# EAGLE library part 096_INCH_MONOCHROME_DISP (library jonsowman)
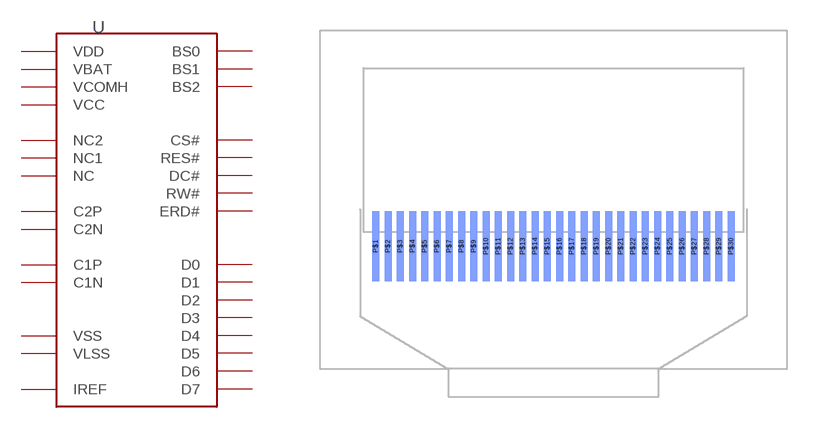
[diagram p15: symbol with the pads of 096_INCH_MONOCHROME_DISP; footprint 096_INCH_MONOCHROME_DISP]

Designator prefix -

## 096_INCH_MONOCHROME_DISP  [096_INCH_MONOCHROME_DISP]
P$1  NC  nc
P$2  C2P
P$3  C2N
P$4  C1P
P$5  C1N
P$6  VBAT
P$7  NC1  nc
P$8  VSS
P$9  VDD
P$10  BS0
P$11  BS1
P$12  BS2
P$13  CS#
P$14  RES#
P$15  DC#
P$16  RW#
P$17  ERD#
P$18  D0
P$19  D1
P$20  D2
P$21  D3
P$22  D4
P$23  D5
P$24  D6
P$25  D7
P$26  IREF
P$27  VCOMH
P$28  VCC
P$29  VLSS
P$30  NC2  nc

## Footprint 096_INCH_MONOCHROME_DISP (pad centres in mm)
smd 0.4 x 4 bottom: P$1 3.2,7; P$2 3.9,7; P$3 4.6,7; P$4 5.3,7; P$5 6,7; P$6 6.7,7; P$7 7.4,7; P$8 8.1,7; P$9 8.8,7; P$10 9.5,7; P$11 10.2,7; P$12 10.9,7; P$13 11.6,7; P$14 12.3,7; P$15 13,7; P$16 13.7,7; P$17 14.4,7; P$18 15.1,7; P$19 15.8,7; P$20 16.5,7; P$21 17.2,7; P$22 17.9,7; P$23 18.6,7; P$24 19.3,7; P$25 20,7; P$26 20.7,7; P$27 21.4,7; P$28 22.1,7; P$29 22.8,7; P$30 23.5,7